# EAGLE library part DIP-BLACK-FEMALE-HEADER(2X9P-2.54) (library Seeed-OPL-Connector)
320030089
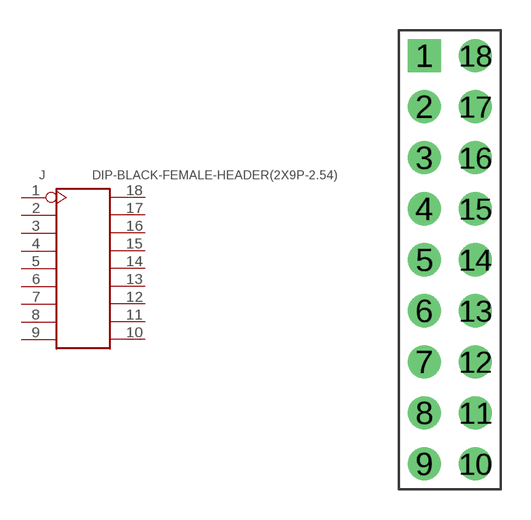
[diagram p132: symbol with the pads of H2X9-2.54; footprint H2X9-2.54]

Designator prefix J

## DIP-BLACK-FEMALE-HEADER(2X9P-2.54) (MPN: F185-1218A0BSYA1; VALUE: 2x9p-2.54)  [H2X9-2.54]
1  1
2  2
3  3
4  4
5  5
6  6
7  7
8  8
9  9
10  10
11  11
12  12
13  13
14  14
15  15
16  16
17  17
18  18

## Footprint H2X9-2.54 (pad centres in mm)
drill 0.889 pad 1.651 square: 1 -1.27,10.16
drill 0.889 pad 1.651: 2 -1.27,7.62; 3 -1.27,5.08; 4 -1.27,2.54; 5 -1.27,0; 6 -1.27,-2.54; 7 -1.27,-5.08; 8 -1.27,-7.62; 9 -1.27,-10.16; 10 1.27,-10.16; 11 1.27,-7.62; 12 1.27,-5.08; 13 1.27,-2.54; 14 1.27,0; 15 1.27,2.54; 16 1.27,5.08; 17 1.27,7.62; 18 1.27,10.16